# Altium integrated library Ferrite Beads.IntLib: 1 symbol
Pins are listed as number, name and electrical type; pins without a type are passive.

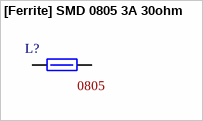
[diagram p0: symbol [Ferrite] SMD 0805 3A 30ohm]

## [Ferrite] SMD 0805 3A 30ohm
designator L?, comment Size Package: 0805  (hidden comment: 652-MH2029-300Y)
Res @ Freq: 30 @ 100MHz; Supplier 1: DigiKey; Supplier Part Number 1: MH2029-300YCT-ND
footprint [Ferrite] SMD 0805
pins: 1, 2